# Altium schematic symbol library IC_ESD_TPD4E05U06DQAR.SchLib: 1 symbol
Pins are listed as number, name and electrical type; pins without a type are passive.

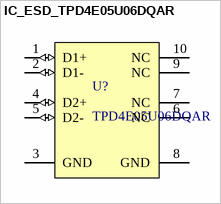
[diagram p0: symbol IC_ESD_TPD4E05U06DQAR]

## IC_ESD_TPD4E05U06DQAR
designator U?, comment TPD4E05U06DQAR
Quad 0.5-pF, 5.5-V, Â±12-kV ESD protection diode for USB,  HDMI & High Speed Interfaces 10-USON -40 to 125; Manufacturer_Name: Texas Instruments; CompType: IC; TYPE: TYPE; RefDes: RefDes; Copyright: Copyright (C) 2025 Ultra Librarian. All rights reserved.; Manufacturer_Part_Number: TPD4E05U06DQAR; Application_BuildNumber: *; PartNumber: TPD4E05U06DQAR; PackageReference: DQA0010A; MountType: SMT; RoHS: Y; Manufacturer: Texas Instruments
footprint IC_ESD_TPD4E05U06DQAR
pins: 1 D1+ (io), 2 D1- (io), 3 GND (power), 4 D2+ (io), 5 D2- (io), 6 NC, 7 NC, 8 GND (power), 9 NC, 10 NC